# Altium footprint library DIODFN2_100X60X55L25X50N.PcbLib: 1 footprints
Each footprint in its own frame and in the unit in brackets; x right, y up, seen from the top. Pads: shape width x height; smd on the part's side, far side on the other; paste and mask are expansions set on the pad; w line width, h text height; cw(c..) or ccw(c..) is an arc to the next point about the centre after c.
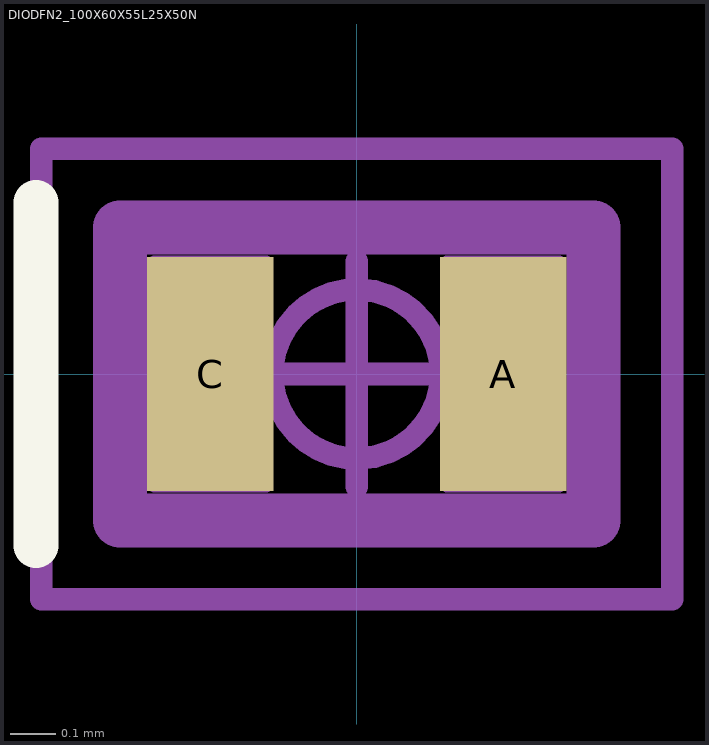
[diagram p0: the footprint, top view; thin cyan lines are the x and y axes]

## DIODFN2_100X60X55L25X50N [mm] "Diode, Dual Flat No-Lead, 2 pin; 1.00 mm L X 0.60 mm W X 0.55 mm H Body"
height 0.55
pads (2):
  rect 0.28x0.52 smd: A(0.325,0) C(-0.325,0)
Top Overlay:
  lines w0.1: -0.712,-0.381 -0.712,0.381
Mechanical 3:
  lines w0.12: -0.525,-0.325 0.525,-0.325 0.525,0.325 -0.525,0.325 -0.525,-0.325
Mechanical 5:
  lines w0.025: -0.5,-0.3 0.5,-0.3 0.5,0.3 -0.5,0.3 -0.5,-0.3 ; -0.45,-0.25 -0.45,0.25 -0.2,0.25 -0.2,-0.25 -0.45,-0.25 ; 0.2,-0.25 0.45,-0.25 0.45,0.25 0.2,0.25 0.2,-0.25
Mechanical 7:
  circle w0.05: c0,0 r0.188
  lines w0.05: -0.25,0 0.25,0 ; 0,-0.25 0,0.25 ; -0.7,-0.5 0.7,-0.5 0.7,0.5 -0.7,0.5 -0.7,-0.5
Mechanical 9:
  text "'.Designator'" at -0.498,0.591 h1.02
3D body "DIODFN2_100X60X55L25X50.STEP": height 0.55, standoff 0, extent -0.5,-0.3 0.5,0.3
3D body: height 0.55, standoff 0, extent -0.7,-0.5 0.7,0.5